# Altium footprint library optocouplers.pcblib: 21 footprints (part 1 of 2)
Each footprint in its own frame and in the unit in brackets; x right, y up, seen from the top. Pads: shape width x height; smd on the part's side, far side on the other; paste and mask are expansions set on the pad; w line width, h text height; cw(c..) or ccw(c..) is an arc to the next point about the centre after c.
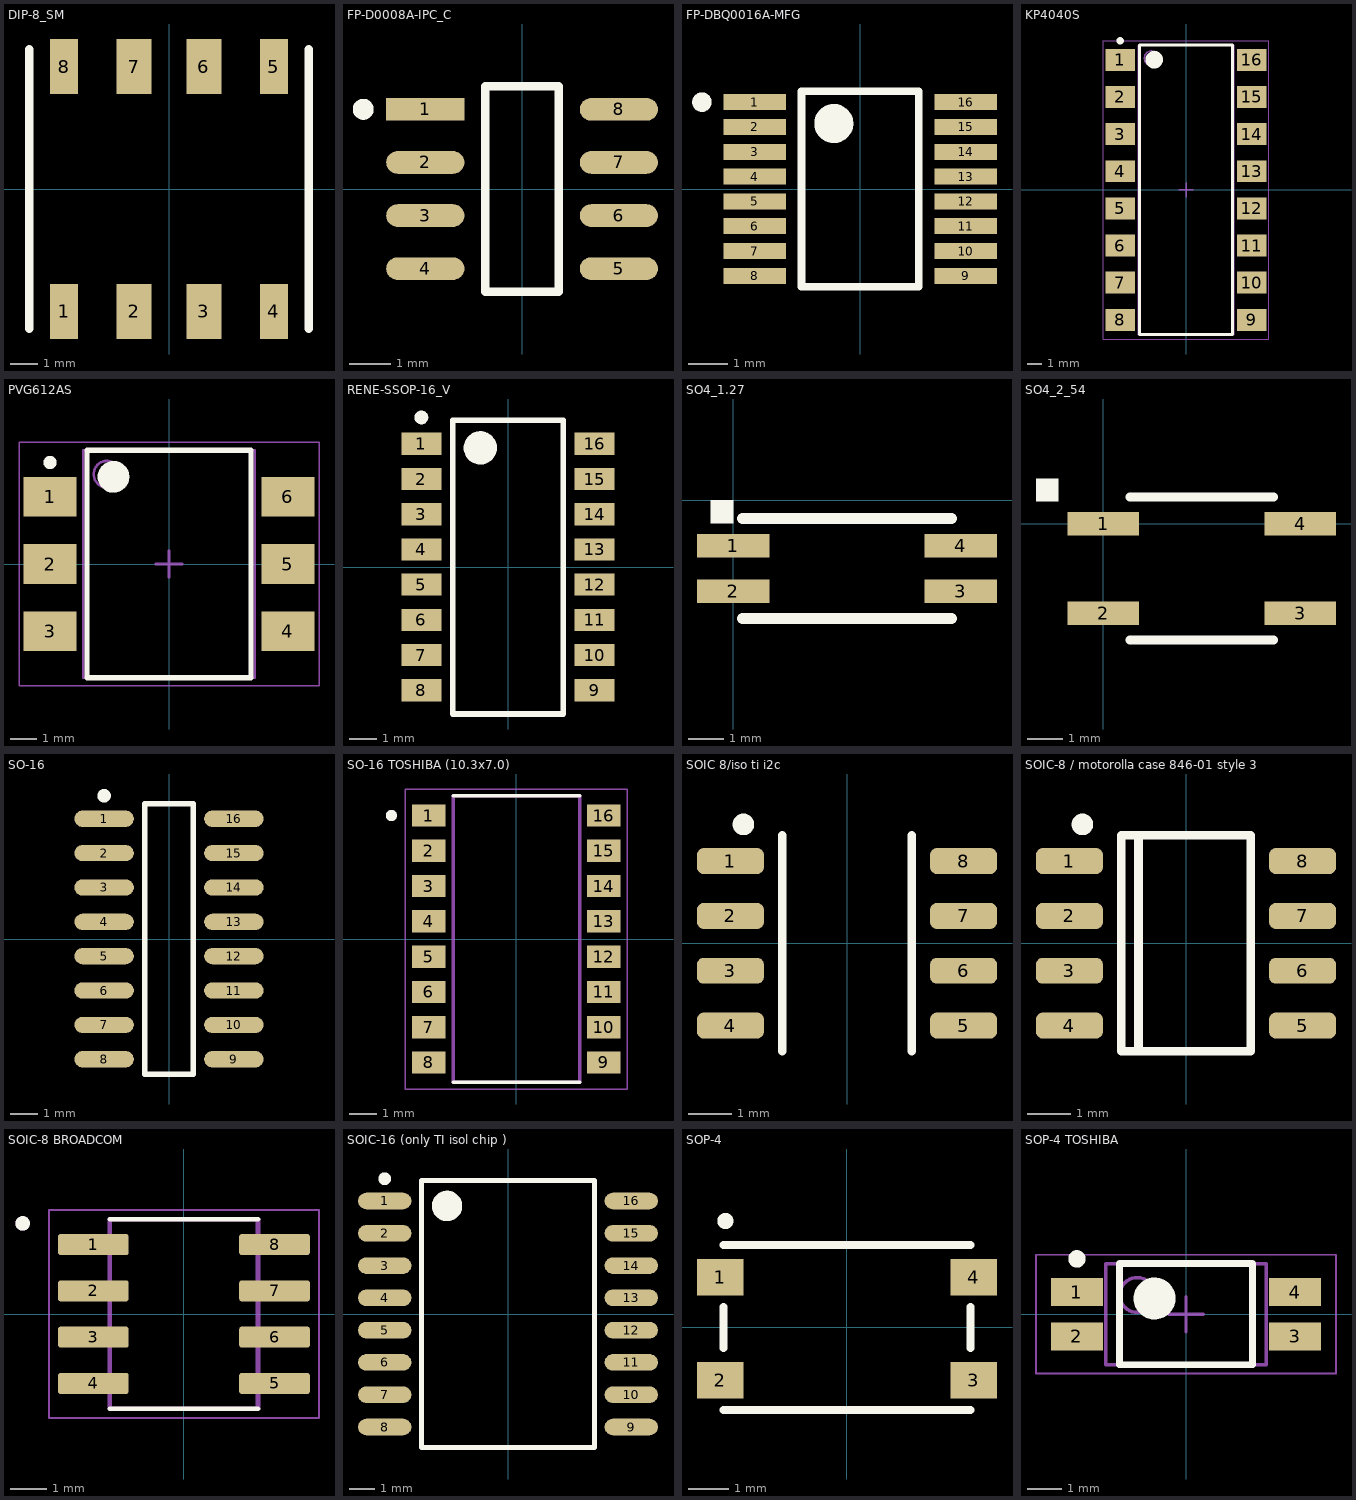
[diagram p0: the footprints below, top view; thin cyan lines are the x and y axes]

## DIP-8_SM [mm]
pads (8):
  rect 1.016x2 smd: 1(-3.81,-4.45) 4(3.81,-4.45) 5(3.81,4.45) 8(-3.81,4.45)
  rect 1.27x2 smd: 2(-1.27,-4.45) 3(1.27,-4.45) 6(1.27,4.45) 7(-1.27,4.45)
Top Overlay:
  lines w0.3: -5.08,-5.08 -5.08,5.08 ; 5.08,-5.08 5.08,5.08
3D body "User Library-PVT322S.step": height 4.43, standoff 0, extent -4.695,-5.015 4.695,5.015

## FP-D0008A-IPC_C [mm]
pads (8):
  rect 1.869x0.542 smd paste+0 mask+0: 1(-2.314,1.905)
  rrect100% 1.869x0.542 smd paste+0 mask+0: 2(-2.314,0.635) 3(-2.314,-0.635) 4(-2.314,-1.905) 5(2.314,-1.905) 6(2.314,-0.635) 7(2.314,0.635) 8(2.314,1.905)
Top Overlay:
  circle w0.25: c-3.798,1.905 r0.125
  lines w0.2: -0.879,-2.452 -0.879,2.452 0.879,2.452 0.879,-2.452 -0.879,-2.452
3D body "IC_Texas_Instruments_ISO7220ADR_eec.STEP": height 0.25, standoff 0, extent -3.348,-2.552 3.348,2.552

## FP-DBQ0016A-MFG [mm]
pads (16):
  rect 1.6x0.41 smd paste+0 mask+0: 1(-2.7,2.222) 2(-2.7,1.587) 3(-2.7,0.953) 4(-2.7,0.318) 5(-2.7,-0.318) 6(-2.7,-0.953) 7(-2.7,-1.587) 8(-2.7,-2.222) 9(2.7,-2.222) 10(2.7,-1.587) 11(2.7,-0.953) 12(2.7,-0.318) 13(2.7,0.318) 14(2.7,0.953) 15(2.7,1.587) 16(2.7,2.222)
Top Overlay:
  circle w0.25: c-4.05,2.222 r0.125
  circle w0.5: c-0.675,1.675 r0.25
  lines w0.2: -1.5,-2.5 1.5,-2.5 1.5,2.5 -1.5,2.5 -1.5,-2.5
3D body "IC_Texas_Instruments_ISO1212DBQR_eec.STEP": height 0.25, standoff 0, extent -3.6,-2.752 3.6,2.752

## KP4040S [mm] "16-Leads, Body 19,84x6,50mm, Pitch 2,54mm, IPC Medium Density"
height 3.5
pads (16):
  rect 2x1.5 smd: 1(-4.5,8.89) 2(-4.5,6.35) 3(-4.5,3.81) 4(-4.5,1.27) 5(-4.5,-1.27) 6(-4.5,-3.81) 7(-4.5,-6.35) 8(-4.5,-8.89) 9(4.5,-8.89) 10(4.5,-6.35) 11(4.5,-3.81) 12(4.5,-1.27) 13(4.5,1.27) 14(4.5,3.81) 15(4.5,6.35) 16(4.5,8.89)
Top Overlay:
  circle w0.6: c-2.175,8.9 r0.3
  circle w0.25: c-4.5,10.19 r0.125
  lines w0.2: -3.175,-9.9 3.175,-9.9 3.175,9.9 -3.175,9.9 -3.175,-9.9
Plata3D:
  circle w0.1: c-2.35,9 r0.5
  lines w0.1: -3.25,-9.9 3.25,-9.9 3.25,9.9 -3.25,9.9 -3.25,-9.9
Board3D:
  lines w0.05: -5.675,-10.2 5.675,-10.2 5.675,10.2 -5.675,10.2 -5.675,-10.2
  lines w0.1: -0.5,0 0.5,0 ; 0,-0.5 0,0.5
3D body "KP4040S.step": height 3.5, standoff 0, extent -5,-9.9 5,9.9

## PVG612AS [mm] "SOP, 6-Leads, Body 8,38x6,35mm, Pitch 2,54mm, IPC Medium Density"
height 3.5
pads (6):
  rect 2x1.5 smd: 1(-4.5,2.54) 2(-4.5,0) 3(-4.5,-2.54) 4(4.5,-2.54) 5(4.5,0) 6(4.5,2.54)
Top Overlay:
  circle w0.25: c-4.5,3.84 r0.125
  circle w0.6: c-2.1,3.3 r0.3
  lines w0.2: -3.1,-4.3 -3.1,4.3 3.1,4.3 3.1,-4.3 -3.1,-4.3
Plata3D:
  circle w0.1: c-2.35,3.4 r0.5
  lines w0.1: -3.25,-4.3 -3.25,4.3 3.25,4.3 3.25,-4.3 -3.25,-4.3
Board3D:
  lines w0.05: -5.675,-4.6 -5.675,4.6 5.675,4.6 5.675,-4.6 -5.675,-4.6
  lines w0.1: -0.5,0 0.5,0 ; 0,-0.5 0,0.5
3D body "PVG612AS.step": height 3.5, standoff 0, extent -5,-4.3 5,4.3

## RENE-SSOP-16_V [mm] "SOIC, 16-Leads, Body 10.6x4.4mm, Pitch 1.27mm"
height 2.3
pads (16):
  rect 1.45x0.8 smd: 1(-3.125,4.445) 2(-3.125,3.175) 3(-3.125,1.905) 4(-3.125,0.635) 5(-3.125,-0.635) 6(-3.125,-1.905) 7(-3.125,-3.175) 8(-3.125,-4.445) 9(3.125,-4.445) 10(3.125,-3.175) 11(3.125,-1.905) 12(3.125,-0.635) 13(3.125,0.635) 14(3.125,1.905) 15(3.125,3.175) 16(3.125,4.445)
Top Overlay:
  circle w0.6: c-1,4.3 r0.3
  circle w0.25: c-3.125,5.395 r0.125
  lines w0.2: -2,-5.3 2,-5.3 2,5.3 -2,5.3 -2,-5.3
3D body "SOP127P700X230-16L.step": height 2.3, standoff 0, extent -3.5,-5.3 3.5,5.3

## SO4_1.27 [mil] "S0-4"
height 118.11
pads (4):
  rect 80x26 smd: 1(0,-50) 2(0,-100) 3(250,-100) 4(250,-50)
Top Overlay:
  region: -25,-25 0,-25 0,0 -25,0
  lines w11.81: 10,-130 240,-130 ; 10,-20 240,-20
3D body "User Library-TLP290.step": height 82.68, standoff 0.2, extent -12.8,-126.18 262.79,-23.82

## SO4_2_54 [mil] "S0-4"
height 118.11
pads (4):
  rect 80x26 smd: 1(0,0) 2(0,-100) 3(220,-100) 4(220,0)
Top Overlay:
  region: -75,25 -50,25 -50,50 -75,50
  lines w10: 30,-130 190,-130 ; 30,30 190,30
3D body "User Library-HCPL-181-1.STEP": height 78.74, standoff -3.96, extent -27.79,-120.87 247.8,20.87

## SO-16 [mm]
pads (16):
  oval 2.2x0.6 smd: 1(-2.4,4.445) 2(-2.4,3.175) 3(-2.4,1.905) 4(-2.4,0.635) 5(-2.4,-0.635) 6(-2.4,-1.905) 7(-2.4,-3.175) 8(-2.4,-4.445) 9(2.4,-4.445) 10(2.4,-3.175) 11(2.4,-1.905) 12(2.4,-0.635) 13(2.4,0.635) 14(2.4,1.905) 15(2.4,3.175) 16(2.4,4.445)
Top Overlay:
  circle w0.25: c-2.4,5.295 r0.125
  lines w0.2: -0.9,-5 -0.9,5 0.9,5 0.9,-5 -0.9,-5
3D body "CircuitWorks-SO-16.step": height 1.45, standoff 0, extent -2.953,-4.978 2.953,5.004

## SO-16 TOSHIBA (10.3x7.0) [mm] "10.3x7.0"
height 2.3
pads (16):
  rect 1.2x0.8 smd: 1(-3.15,4.445) 2(-3.15,3.175) 3(-3.15,1.905) 4(-3.15,0.635) 5(-3.15,-0.635) 6(-3.15,-1.905) 7(-3.15,-3.175) 8(-3.15,-4.445) 9(3.15,-4.445) 10(3.15,-3.175) 11(3.15,-1.905) 12(3.15,-0.635) 13(3.15,0.635) 14(3.15,1.905) 15(3.15,3.175) 16(3.15,4.445)
Top Overlay:
  circle w0.2: c-4.5,4.445 r0.1
  lines w0.127: -2.275,-5.15 2.275,-5.15 ; -2.275,5.15 2.275,5.15
Plata3D:
  circle w0.2: c-4.5,4.445 r0.1
  lines w0.127: -2.275,-5.15 -2.275,5.15 2.275,5.15 2.275,-5.15 -2.275,-5.15
Board3D:
  lines w0.05: -4,-5.4 -4,5.4 4,5.4 4,-5.4 -4,-5.4
3D body "TLP290-4(GB-TP,E).STEP": height 2.31, standoff 0.01, extent -3.5,-5.15 3.5,5.15

## SOIC 8/iso ti i2c [mm]
pads (8):
  rrect50% 1.55x0.6 smd: 1(-2.7,1.905) 2(-2.7,0.635) 3(-2.7,-0.635) 4(-2.7,-1.905) 5(2.7,-1.905) 6(2.7,-0.635) 7(2.7,0.635) 8(2.7,1.905)
Top Overlay:
  circle w0.25: c-2.4,2.755 r0.125
  lines w0.2: -1.5,-2.5 -1.5,2.5 ; 1.5,-2.5 1.5,2.5
3D body "User Library-8_pin_soic.step": height 1.12, standoff -0.03, extent -2.424,-2.489 2.424,2.49

## SOIC-8 / motorolla case 846-01 style 3 [mm]
pads (8):
  rrect50% 1.55x0.6 smd: 1(-2.7,1.905) 2(-2.7,0.635) 3(-2.7,-0.635) 4(-2.7,-1.905) 5(2.7,-1.905) 6(2.7,-0.635) 7(2.7,0.635) 8(2.7,1.905)
Top Overlay:
  circle w0.25: c-2.4,2.755 r0.125
  lines w0.2: -1.1,-2.5 -1.1,2.5 ; -1.5,-2.5 -1.5,2.5 1.5,2.5 1.5,-2.5 -1.5,-2.5
3D body "MOCD217M.STEP": height 3.63, standoff 0, extent -3.004,-2.448 2.936,2.432

## SOIC-8 BROADCOM [mm]
pads (8):
  rrect25% 1.94x0.58 smd: 1(-2.485,1.905) 2(-2.485,0.635) 3(-2.485,-0.635) 4(-2.485,-1.905) 5(2.485,-1.905) 6(2.485,-0.635) 7(2.485,0.635) 8(2.485,1.905)
Top Overlay:
  circle w0.2: c-4.425,2.485 r0.1
  lines w0.127: -2.032,-2.603 2.032,-2.603 ; -2.032,2.603 2.032,2.603
Plata3D:
  circle w0.2: c-4.425,2.485 r0.1
  lines w0.127: -2.032,-2.603 2.032,-2.603 2.032,2.603 -2.032,2.603 -2.032,-2.603
Board3D:
  lines w0.05: -3.705,-2.853 3.705,-2.853 3.705,2.853 -3.705,2.853 -3.705,-2.853
3D body "HCPL-0631-500E.STEP": height 3.62, standoff 0.01, extent -2.997,-2.552 2.997,2.528

## SOIC-16 (only TI isol chip ) [mm]
pads (16):
  oval 2.1x0.65 smd: 1(-4.85,4.445) 2(-4.85,3.175) 3(-4.85,1.905) 4(-4.85,0.635) 5(-4.85,-0.635) 6(-4.85,-1.905) 7(-4.85,-3.175) 8(-4.85,-4.445) 9(4.85,-4.445) 10(4.85,-3.175) 11(4.85,-1.905) 12(4.85,-0.635) 13(4.85,0.635) 14(4.85,1.905) 15(4.85,3.175) 16(4.85,4.445)
Top Overlay:
  circle w0.6: c-2.4,4.25 r0.3
  circle w0.25: c-4.85,5.32 r0.125
  lines w0.2: -3.4,-5.25 3.4,-5.25 3.4,5.25 -3.4,5.25 -3.4,-5.25
3D body "DW0016B.stp": height 2.59, standoff 0, extent -5.168,-5.15 5.167,5.15

## SOP-4 [mm] "Vishay photovoltaic"
pads (4):
  rect 1.15x0.9 smd: 1(-3.125,1.24) 2(-3.125,-1.3) 3(3.125,-1.3) 4(3.125,1.24)
Top Overlay:
  circle w0.254: c-3,2.625 r0.071
  lines w0.2: -3.048,-2.032 3.048,-2.032 ; -3.048,-0.508 -3.048,0.508 ; -3.048,2.032 3.048,2.032 ; 3.048,-0.508 3.048,0.508
3D body "User Library-VOM618A.step": height 2.1, standoff 0, extent -3.503,-1.925 3.504,1.925

## SOP-4 TOSHIBA [mm]
height 2.1
pads (4):
  rect 1.5x0.8 smd: 1(-3.125,0.635) 2(-3.125,-0.635) 3(3.125,-0.635) 4(3.125,0.635)
Top Overlay:
  circle w0.6: c-0.9,0.45 r0.3
  circle w0.25: c-3.125,1.585 r0.125
  lines w0.2: -1.9,-1.45 1.9,-1.45 1.9,1.45 -1.9,1.45 -1.9,-1.45
Plata3D:
  circle w0.1: c-1.4,0.55 r0.5
  lines w0.1: -2.3,-1.45 2.3,-1.45 2.3,1.45 -2.3,1.45 -2.3,-1.45
Board3D:
  lines w0.05: -4.3,-1.7 4.3,-1.7 4.3,1.7 -4.3,1.7 -4.3,-1.7
  lines w0.1: -0.5,0 0.5,0 ; 0,-0.5 0,0.5
3D body "SOP-4 TOSHIBA.step": height 2.1, standoff 0, extent -3.5,-1.45 3.5,1.45